# EAGLE library part SX1301 (library SX1301)
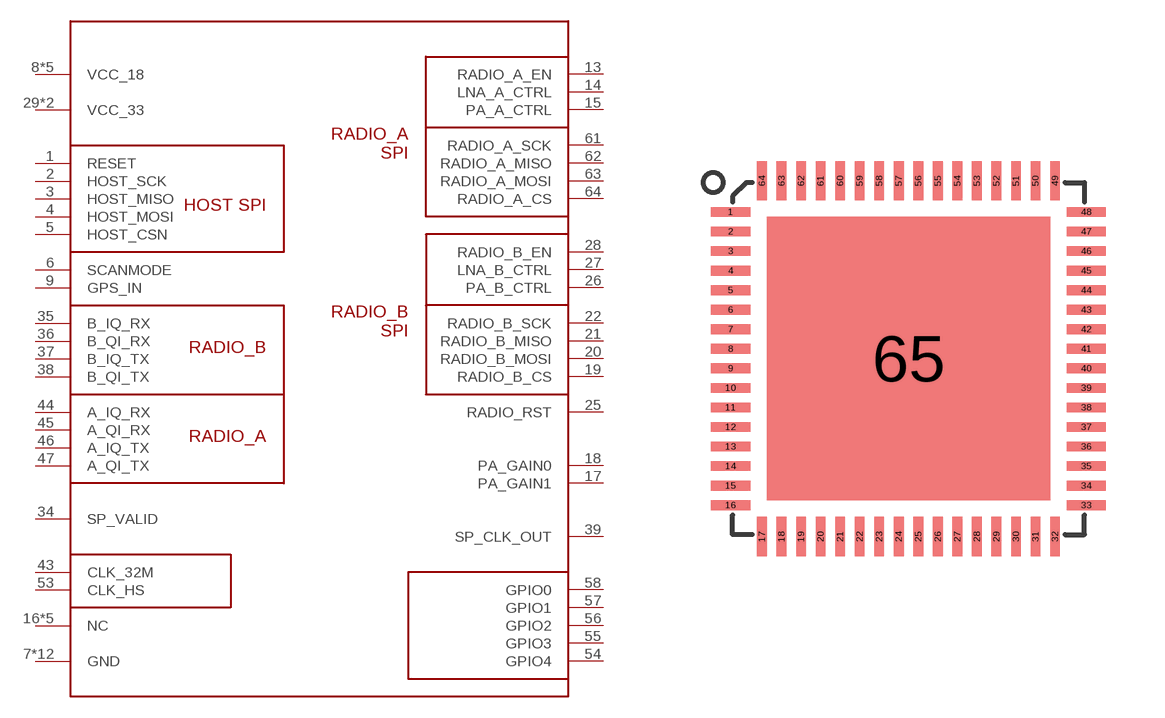
[diagram p1: symbol with the pads of QFN64G-0.5-9X9MM; footprint QFN64G-0.5-9X9MM]

Designator prefix -

## SX1301  [QFN64G-0.5-9X9MM]
1  RESET
2  HOST_SCK
3  HOST_MISO
4  HOST_MOSI
5  HOST_CSN
6  SCANMODE
7  GND
8  VCC_18
9  GPS_IN
10  GND
11  GND
12  VCC_18
13  RADIO_A_EN
14  LNA_A_CTRL
15  PA_A_CTRL
16  NC
17  PA_GAIN1
18  PA_GAIN0
19  RADIO_B_CS
20  RADIO_B_MOSI
21  RADIO_B_MISO
22  RADIO_B_SCK
23  VCC_18
24  GND
25  RADIO_RST
26  PA_B_CTRL
27  LNA_B_CTRL
28  RADIO_B_EN
29  VCC_33
30  GND
31  GND
32  NC
33  NC
34  SP_VALID
35  B_IQ_RX
36  B_QI_RX
37  B_IQ_TX
38  B_QI_TX
39  SP_CLK_OUT
40  GND
41  GND
42  VCC_18
43  CLK_32M
44  A_IQ_RX
45  A_QI_RX
46  A_IQ_TX
47  A_QI_TX
48  NC
49  NC
50  GND
51  GND
52  VCC_33
53  CLK_HS
54  GPIO4
55  GPIO3
56  GPIO2
57  GPIO1
58  GPIO0
59  GND
60  VCC_18
61  RADIO_A_SCK
62  RADIO_A_MISO
63  RADIO_A_MOSI
64  RADIO_A_CS
65  GND

## Footprint QFN64G-0.5-9X9MM (pad centres in mm)
smd 1 x 0.25: 1 -4.55,3.75; 2 -4.55,3.25; 3 -4.55,2.75; 4 -4.55,2.25; 5 -4.55,1.75; 6 -4.55,1.25; 7 -4.55,0.75; 8 -4.55,0.25; 9 -4.55,-0.25; 10 -4.55,-0.75; 11 -4.55,-1.25; 12 -4.55,-1.75; 13 -4.55,-2.25; 14 -4.55,-2.75; 15 -4.55,-3.25; 16 -4.55,-3.75; 33 4.55,-3.75; 34 4.55,-3.25; 35 4.55,-2.75; 36 4.55,-2.25; 37 4.55,-1.75; 38 4.55,-1.25; 39 4.55,-0.75; 40 4.55,-0.25; 41 4.55,0.25; 42 4.55,0.75; 43 4.55,1.25; 44 4.55,1.75; 45 4.55,2.25; 46 4.55,2.75; 47 4.55,3.25; 48 4.55,3.75
smd 0.25 x 1: 17 -3.75,-4.55; 18 -3.25,-4.55; 19 -2.75,-4.55; 20 -2.25,-4.55; 21 -1.75,-4.55; 22 -1.25,-4.55; 23 -0.75,-4.55; 24 -0.25,-4.55; 25 0.25,-4.55; 26 0.75,-4.55; 27 1.25,-4.55; 28 1.75,-4.55; 29 2.25,-4.55; 30 2.75,-4.55; 31 3.25,-4.55; 32 3.75,-4.55; 49 3.75,4.55; 50 3.25,4.55; 51 2.75,4.55; 52 2.25,4.55; 53 1.75,4.55; 54 1.25,4.55; 55 0.75,4.55; 56 0.25,4.55; 57 -0.25,4.55; 58 -0.75,4.55; 59 -1.25,4.55; 60 -1.75,4.55; 61 -2.25,4.55; 62 -2.75,4.55; 63 -3.25,4.55; 64 -3.75,4.55
smd 7.25 x 7.25: 65 0,0